# EAGLE library part 61300611121 (library 61300611121)
WR-PHD 2.54mm Pin Header THT Straight 6p Wurth Elektronik WR-PHD Series, Series Number 6130, 2.54mm Pitch 6 Way 1 Row Straight Pin Header, Cable Mount Source: Datasheet <https://componentsearchengine.com/Datasheets/2/61300611121.pdf>
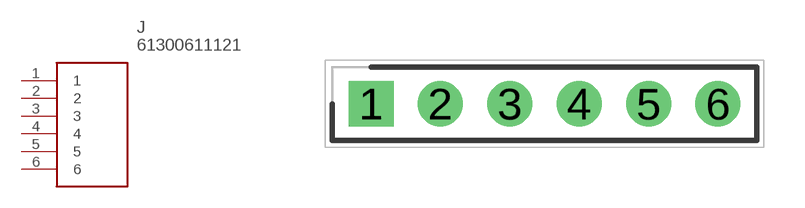
[diagram p0: symbol with the pads of HDRV6W64P0X254_1X6_1524X254X86; footprint HDRV6W64P0X254_1X6_1524X254X86]

Designator prefix J

## 61300611121 (Description: WR-PHD 2.54mm Pin Header THT Straight 6p Wurth Elektronik WR-PHD Series, Series Number 6130, 2.54mm Pitch 6 Way 1 Row Straight Pin Header, Cable Mount; Height: 8.69mm; Manufacturer_Name: Wurth Elektronik; Manufacturer_Part_Number: 61300611121; Mouser_Part_Number: 710-61300611121; Mouser_Price-Stock: https://www.mouser.co.uk/ProductDetail/Wurth-Elektronik/61300611121?qs=t4813l51qx%2FRpdf0Kp1HlQ%3D%3D)  [HDRV6W64P0X254_1X6_1524X254X86]
1  1
2  2
3  3
4  4
5  5
6  6

## Footprint HDRV6W64P0X254_1X6_1524X254X86 (pad centres in mm)
61300611121
drill 1.1 pad 1.65 square: 1 0,0
drill 1.1 pad 1.65: 2 2.54,0; 3 5.08,0; 4 7.62,0; 5 10.16,0; 6 12.7,0